# EAGLE library part MILLI-GRID-18 (library con-molex)
Milli-Grid Pin Header 2.00mm (.079") Pitch
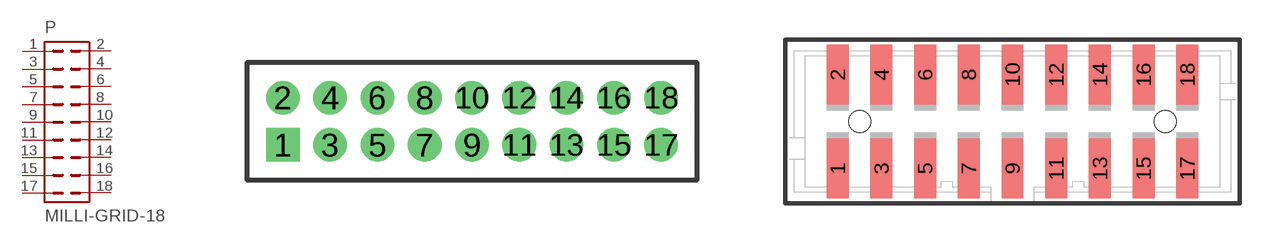
[diagram p57: symbol with the pads of 87758-18; footprints 87758-18, 87832-18]

Designator prefix P

## MILLI-GRID-18-87758  [87758-18]
1  1  pas
2  2  pas
3  3  pas
4  4  pas
5  5  pas
6  6  pas
7  7  pas
8  8  pas
9  9  pas
10  10  pas
11  11  pas
12  12  pas
13  13  pas
14  14  pas
15  15  pas
16  16  pas
17  17  pas
18  18  pas

## MILLI-GRID-18-87832  [87832-18]
Pads as for 87758-18

## MILLI-GRID-18-87759  [87759-18]
Pads as for 87758-18

## MILLI-GRID-18-79109  [79109-18]
Pads as for 87758-18

## MILLI-GRID-18-87340  [87340-18]
Pads as for 87758-18

## MILLI-GRID-18-79107  [79107-18]
Pads as for 87758-18

## MILLI-GRID-18-87264  [87264-18]
Pads as for 87758-18

## MILLI-GRID-18-87368  [87368-18]
Pads as for 87758-18

## Footprint 87758-18 (pad centres in mm)
PCB Pin Headers 2.00mm (.079") Pitch Milli-Grid Header, Vertical
drill 0.914 square: 1 -8,-1
drill 0.914: 2 -8,1; 3 -6,-1; 4 -6,1; 5 -4,-1; 6 -4,1; 7 -2,-1; 8 -2,1; 9 0,-1; 10 0,1; 11 2,-1; 12 2,1; 13 4,-1; 14 4,1; 15 6,-1; 16 6,1; 17 8,-1; 18 8,1

## Footprint 87832-18 (pad centres in mm)
PCB Headers 2.00mm (.079") Pitch Milli-Grid Header, Vertical, Shrouded
smd 1 x 2.75: 1 -8,-2.15; 2 -8,2.15; 3 -6,-2.15; 4 -6,2.15; 5 -4,-2.15; 6 -4,2.15; 7 -2,-2.15; 8 -2,2.15; 9 0,-2.15; 10 0,2.15; 11 2,-2.15; 12 2,2.15; 13 4,-2.15; 14 4,2.15; 15 6,-2.15; 16 6,2.15; 17 8,-2.15; 18 8,2.15
hole 1 at -7,0
hole 1 at 7,0

## Footprint 87759-18 (pad centres in mm)
PCB Pin Headers 2.00mm (.079") Pitch Milli-Grid Header, Vertical SMD
smd 1 x 2.75: 1 -8,-2.15; 2 -8,2.15; 3 -6,-2.15; 4 -6,2.15; 5 -4,-2.15; 6 -4,2.15; 7 -2,-2.15; 8 -2,2.15; 9 0,-2.15; 10 0,2.15; 11 2,-2.15; 12 2,2.15; 13 4,-2.15; 14 4,2.15; 15 6,-2.15; 16 6,2.15; 17 8,-2.15; 18 8,2.15
hole 1 at -7,0
hole 1 at 7,0

## Footprint 79109-18 (pad centres in mm)
Board-to-Board Receptacal 2.00mm (.079") Pitch Milli-Grid Header, Vertical, Top/Bottom Entry Mates with: 87758, 87759, 87760, 87831, 87832, 87833
smd 1.12 x 1.83: 1 -8,-2.65; 2 -8,2.65; 3 -6,-2.65; 4 -6,2.65; 5 -4,-2.65; 6 -4,2.65; 7 -2,-2.65; 8 -2,2.65; 9 0,-2.65; 10 0,2.65; 11 2,-2.65; 12 2,2.65; 13 4,-2.65; 14 4,2.65; 15 6,-2.65; 16 6,2.65; 17 8,-2.65; 18 8,2.65
hole 0.914 at -7,0
hole 0.914 at -8,1
hole 0.914 at -8,-1
hole 0.914 at -6,-1
hole 0.914 at -6,1
hole 0.914 at -4,-1
hole 0.914 at -4,1
hole 0.914 at 7,0
hole 0.914 at -2,1
hole 0.914 at -2,-1
hole 0.914 at 0,1
hole 0.914 at 0,-1
hole 0.914 at 2,1
hole 0.914 at 2,-1
hole 0.914 at 4,1
hole 0.914 at 4,-1
hole 0.914 at 6,-1
hole 0.914 at 6,1
hole 0.914 at 8,1
hole 0.914 at 8,-1

## Footprint 87340-18 (pad centres in mm)
Board-To-Board Receptacal 2.00mm (.079") Pitch Milli-Grid Header, Vertical, Top/Bottom Entry Mates with: 87758, 87759, 87760, 87831, 87832, 87833
smd 1 x 1.75: 1 -8,-2.5; 2 -8,2.5; 3 -6,-2.5; 4 -6,2.5; 5 -4,-2.5; 6 -4,2.5; 7 -2,-2.5; 8 -2,2.5; 9 0,2.5; 10 0,-2.5; 11 2,-2.5; 12 2,2.5; 13 4,2.5; 14 4,-2.5; 15 6,-2.5; 16 6,2.5; 17 8,-2.5; 18 8,2.5
hole 0.914 at -9,0
hole 0.914 at -8,1
hole 0.914 at -8,-1
hole 0.914 at -6,-1
hole 0.914 at -6,1
hole 0.914 at 9,0
hole 0.914 at -4,1
hole 0.914 at -4,-1
hole 0.914 at -2,1
hole 0.914 at -2,-1
hole 0.914 at 0,-1
hole 0.914 at 0,1
hole 0.914 at 2,1
hole 0.914 at 2,-1
hole 0.914 at 4,1
hole 0.914 at 4,-1
hole 0.914 at 6,1
hole 0.914 at 6,-1
hole 0.914 at 8,1
hole 0.914 at 8,-1

## Footprint 79107-18 (pad centres in mm)
Board-To-Board Receptacal 2.00mm (.079") Pitch Milli-Grid Header, Vertical, Through-Hole Mates with: 87759, 87762, 87758, 87760
drill 0.914 square: 1 -8,-1
drill 0.914: 2 -8,1; 3 -6,-1; 4 -6,1; 5 -4,-1; 6 -4,1; 7 -2,-1; 8 -2,1; 9 0,-1; 10 0,1; 11 2,-1; 12 2,1; 13 4,-1; 14 4,1; 15 6,-1; 16 6,1; 17 8,-1; 18 8,1

## Footprint 87264-18 (pad centres in mm)
Board-To-Board Receptacal 2.00mm (.079") Pitch Milli-Grid Header, Side Entry Mates with 2mm(.079") Mill-Grid Header
drill 0.914 square: 1 -8,-2.25
drill 0.914: 2 -8,2.25; 3 -6,-2.25; 4 -6,2.25; 5 -4,-2.25; 6 -4,2.25; 7 -2,-2.25; 8 -2,2.25; 9 0,-2.25; 10 0,2.25; 11 2,-2.25; 12 2,2.25; 13 4,-2.25; 14 4,2.25; 15 6,-2.25; 16 6,2.25; 17 8,-2.25; 18 8,2.25

## Footprint 87368-18 (pad centres in mm)
Board-To-Board Receptacal 2.00mm (.079") Pitch Milli-Grid Header, Side Entry SMD Mates with 2mm(.079") Mill-Grid Header
smd 1 x 2.8: 1 -8,-3.1; 2 -8,3.1; 3 -6,-3.1; 4 -6,3.1; 5 -4,-3.1; 6 -4,3.1; 7 -2,-3.1; 8 -2,3.1; 9 0,-3.1; 10 0,3.1; 11 2,-3.1; 12 2,3.1; 13 4,-3.1; 14 4,3.1; 15 6,-3.1; 16 6,3.1; 17 8,-3.1; 18 8,3.1
hole 0.914 at -8,0
hole 0.914 at 0,0